# Altium footprint library REG_th.PcbLib: 1 footprints
Each footprint in its own frame and in the unit in brackets; x right, y up, seen from the top. Pads: shape width x height; smd on the part's side, far side on the other; paste and mask are expansions set on the pad; w line width, h text height; cw(c..) or ccw(c..) is an arc to the next point about the centre after c.
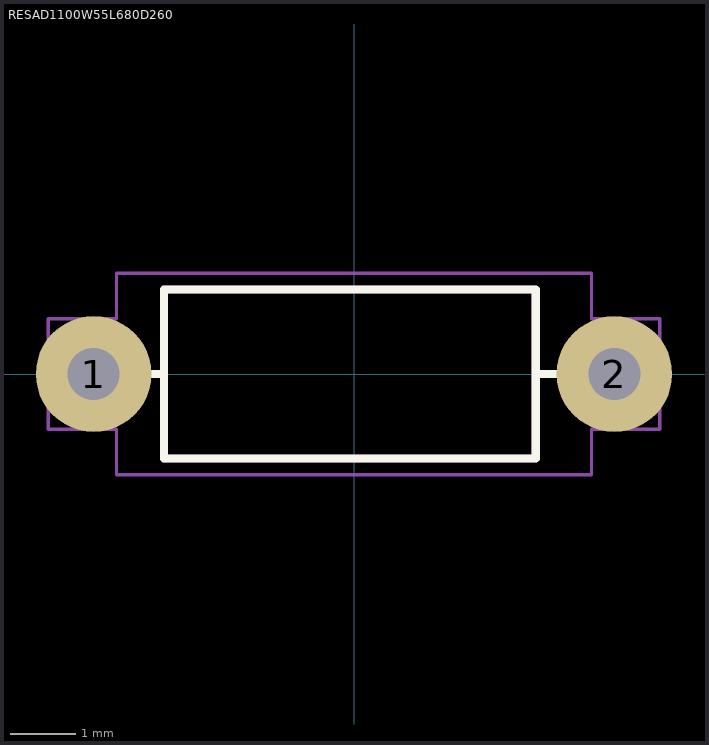
[diagram p0: the footprint, top view; thin cyan lines are the x and y axes]

## RESAD1100W55L680D260 [mil]
height 102.36
pads (2):
  round 70 hole 31.5: 1(-157.48,0) 2(157.48,0)
Top Overlay:
  lines w5: -161.46,0 -115,0 ; 157.48,0 110,0 ; 110,0 110,-51.18 -115,-51.18 -115,18.86 -115,51.18 110,51.18 110,25 110,0
Mechanical 1:
  lines w5: 110,0 157.48,0
Mechanical 13:
  lines w5: -133.86,0 -115,0 -133.86,0 ; -115,-51.18 -115,18.86 -115,51.18 110,51.18 110,23.86 110,-51.18 -115,-51.18
Mechanical 15:
  lines w1.97: -185,-33.46 -143.7,-33.46 -143.7,-61.02 143.7,-61.02 143.7,-33.46 185,-33.46 185,33.46 143.7,33.46 143.7,61.02 -143.7,61.02 -143.7,33.46 -185,33.46 -185,-33.46
3D body: height 10, standoff 0, extent -185,-55 185,60